# EAGLE library part CC2538 (library ic)
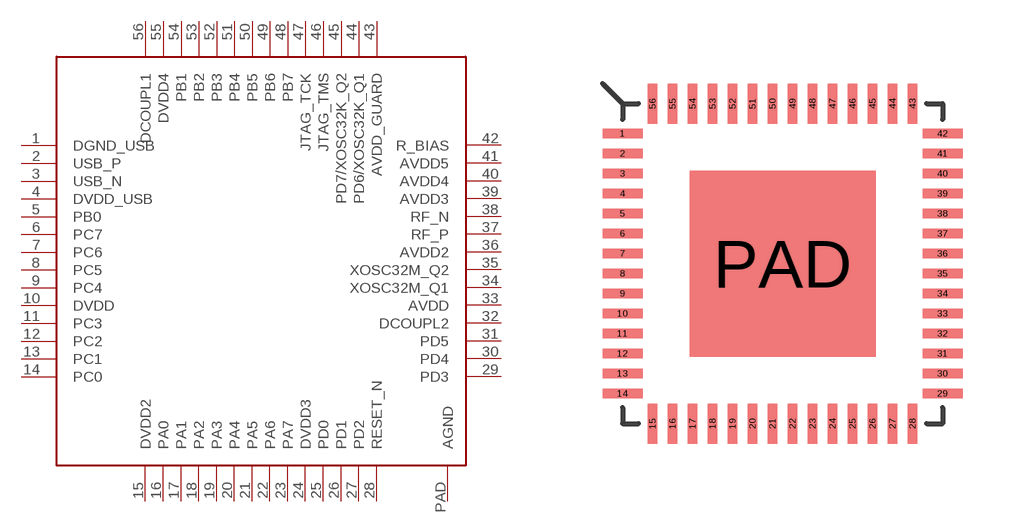
[diagram p0: symbol with the pads of QFN56; footprint QFN56]

Designator prefix -

## CC2538  [QFN56]
1  DGND_USB
2  USB_P
3  USB_N
4  DVDD_USB
5  PB0
6  PC7
7  PC6
8  PC5
9  PC4
10  DVDD
11  PC3
12  PC2
13  PC1
14  PC0
15  DVDD2
16  PA0
17  PA1
18  PA2
19  PA3
20  PA4
21  PA5
22  PA6
23  PA7
24  DVDD3
25  PD0
26  PD1
27  PD2
28  RESET_N
29  PD3
30  PD4
31  PD5
32  DCOUPL2
33  AVDD
34  XOSC32M_Q1
35  XOSC32M_Q2
36  AVDD2
37  RF_P
38  RF_N
39  AVDD3
40  AVDD4
41  AVDD5
42  R_BIAS
43  AVDD_GUARD
44  PD6/XOSC32K_Q1
45  PD7/XOSC32K_Q2
46  JTAG_TMS
47  JTAG_TCK
48  PB7
49  PB6
50  PB5
51  PB4
52  PB3
53  PB2
54  PB1
55  DVDD4
56  DCOUPL1
PAD  AGND

## Footprint QFN56 (pad centres in mm)
smd 1 x 0.24: 1 -4,3.25; 2 -4,2.75; 3 -4,2.25; 4 -4,1.75; 5 -4,1.25; 6 -4,0.75; 7 -4,0.25; 8 -4,-0.25; 9 -4,-0.75; 10 -4,-1.25; 11 -4,-1.75; 12 -4,-2.25; 13 -4,-2.75; 14 -4,-3.25; 29 4,-3.25; 30 4,-2.75; 31 4,-2.25; 32 4,-1.75; 33 4,-1.25; 34 4,-0.75; 35 4,-0.25; 36 4,0.25; 37 4,0.75; 38 4,1.25; 39 4,1.75; 40 4,2.25; 41 4,2.75; 42 4,3.25
smd 0.24 x 1: 15 -3.25,-4; 16 -2.75,-4; 17 -2.25,-4; 18 -1.75,-4; 19 -1.25,-4; 20 -0.75,-4; 21 -0.25,-4; 22 0.25,-4; 23 0.75,-4; 24 1.25,-4; 25 1.75,-4; 26 2.25,-4; 27 2.75,-4; 28 3.25,-4; 43 3.25,4; 44 2.75,4; 45 2.25,4; 46 1.75,4; 47 1.25,4; 48 0.75,4; 49 0.25,4; 50 -0.25,4; 51 -0.75,4; 52 -1.25,4; 53 -1.75,4; 54 -2.25,4; 55 -2.75,4; 56 -3.25,4
smd 4.65 x 4.65: PAD 0,0